# Altium footprint library DSBGA12.pcblib: 1 footprints
Each footprint in its own frame and in the unit in brackets; x right, y up, seen from the top. Pads: shape width x height; smd on the part's side, far side on the other; paste and mask are expansions set on the pad; w line width, h text height; cw(c..) or ccw(c..) is an arc to the next point about the centre after c.
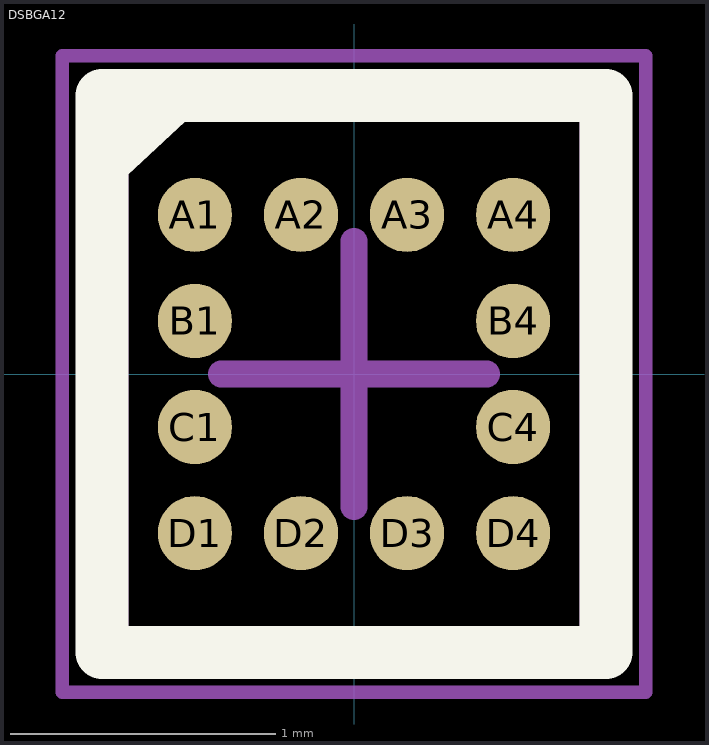
[diagram p0: the footprint, top view; thin cyan lines are the x and y axes]

## DSBGA12 [mm] "DSBGA 12 leads, 4x4, .4 mm pitch"
height 0.6
pads (12):
  round 0.28 smd: A1(-0.6,0.6) A2(-0.2,0.6) A3(0.2,0.6) A4(0.6,0.6) B1(-0.6,0.2) B4(0.6,0.2) C1(-0.6,-0.2) C4(0.6,-0.2) D1(-0.6,-0.6) D2(-0.2,-0.6) D3(0.2,-0.6) D4(0.6,-0.6)
Top Overlay:
  lines w0.2: -0.948,0.798 -0.678,1.05 ; -0.95,-1.05 -0.95,1.05 0.95,1.05 0.95,-1.05 -0.95,-1.05
Mechanical 13:
  lines w0.1: -0.9,-1 -0.9,1 0.9,1 0.9,-1 -0.9,-1
Mechanical 15:
  lines w0.05: -1.1,-1.2 -1.1,1.2 1.1,1.2 1.1,-1.2 -1.1,-1.2
  lines w0.1: -0.5,0 0.5,0 ; 0,-0.5 0,0.5
Mechanical 17:
  text "'.Designator'" at -0.85,-0.05 h0.13
Mechanical 19:
  text "'.Comment'" at -0.6,-0.15 h0.15
3D body "BGA12.step": height 0.6, standoff 0, extent -0.85,-0.95 0.85,0.95